# EAGLE library part LTC3531 (library xmaker)
Linear Technology LTC3531/LTC3531-3.3/ LTC3531-3 - 200mA Buck-Boost Synchronous DC/DC Converters.
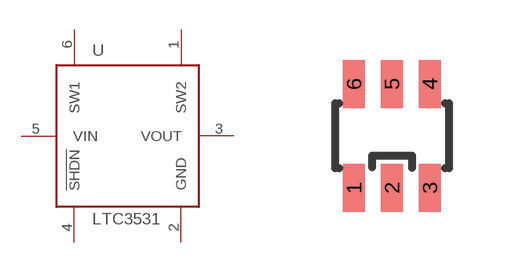
[diagram p4: symbol with the pads of SOT23-6; footprint SOT23-6]

Designator prefix U

## LTC3531ES6  [SOT23-6]
1  SW2
2  GND
3  VOUT
4  !SHDN
5  VIN
6  SW1

## Footprint SOT23-6 (pad centres in mm)
Small Outline Transistor
smd 0.55 x 1.2: 1 -0.95,-1.3; 2 0,-1.3; 3 0.95,-1.3; 4 0.95,1.3; 5 0,1.3; 6 -0.95,1.3